# Altium schematic symbol library CustomComponents.SchLib: 1 symbol
Pins are listed as number, name and electrical type; pins without a type are passive.

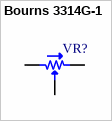
[diagram p0: symbol Bourns 3314G-1]

## Bourns 3314G-1
designator VR?
Bourns 3314G-1
footprint Bourns 3314G-1
pins: 1, 2, 3